# Altium footprint library diods.PcbLib: 43 footprints (part 3 of 3)
Each footprint in its own frame and in the unit in brackets; x right, y up, seen from the top. Pads: shape width x height; smd on the part's side, far side on the other; paste and mask are expansions set on the pad; w line width, h text height; cw(c..) or ccw(c..) is an arc to the next point about the centre after c.
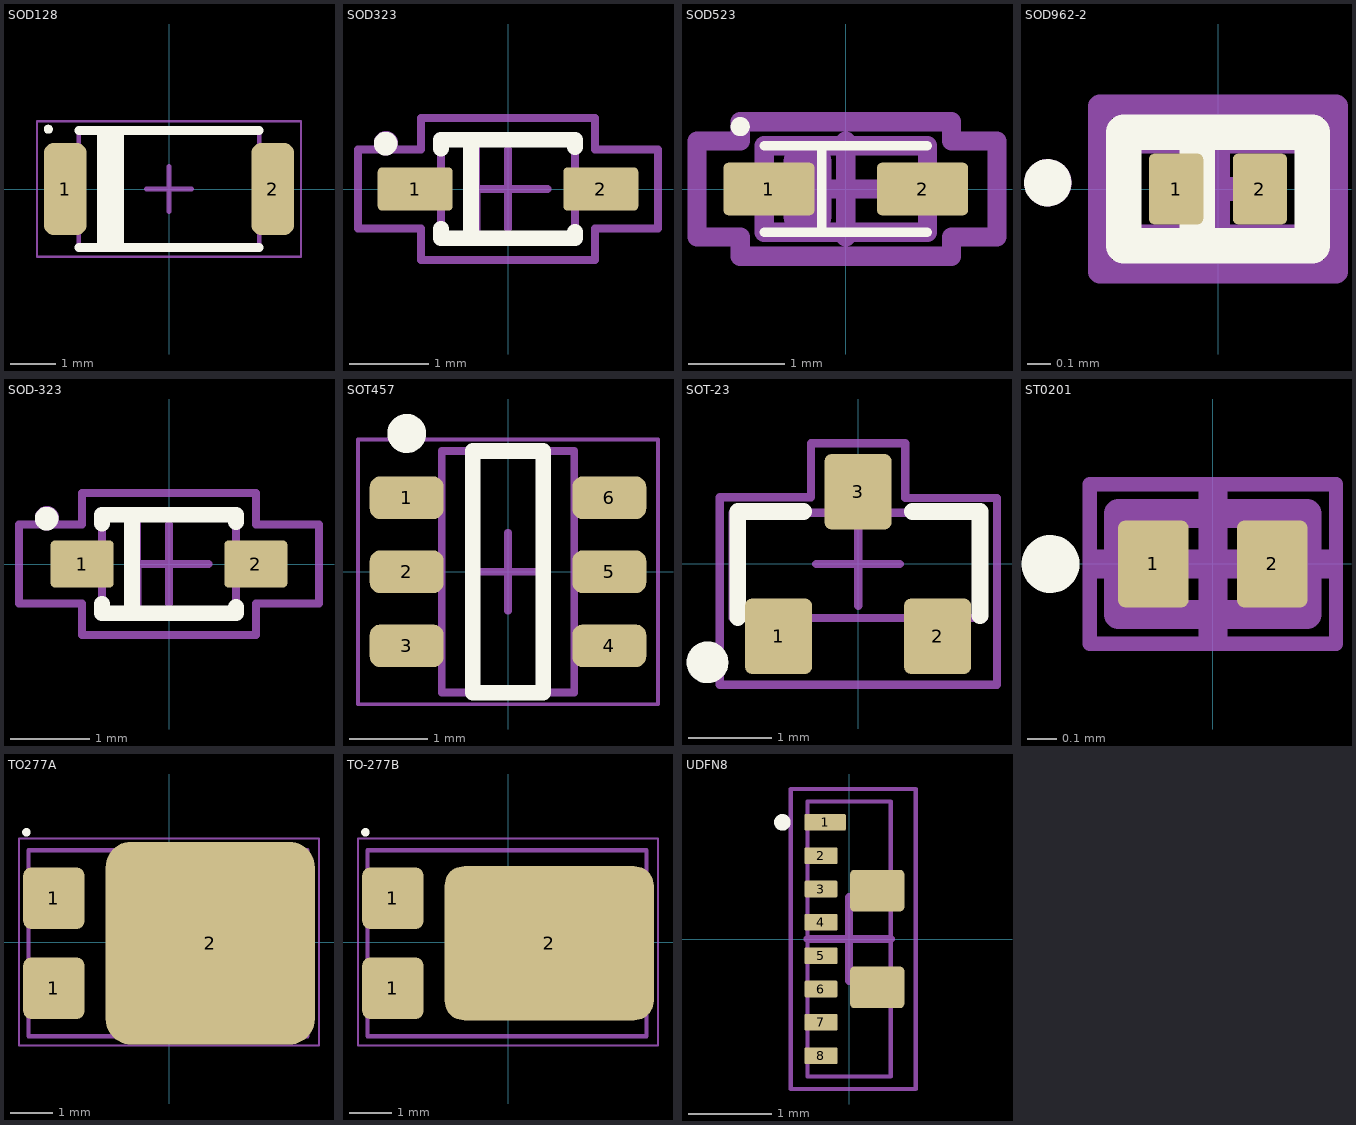
[diagram p2: the footprints below, top view; thin cyan lines are the x and y axes]

## SOD128 [mm] "SOD128, IPC Medium Density"
height 1.1
pads (2):
  rrect50% 0.95x2.05 smd: 1(-2.3,0) 2(2.3,0)
Top Overlay:
  circle w0.1: c-2.675,1.325 r0.05
  lines w0.2: -2,-1.3 2,-1.3 ; -2,1.3 2,1.3 ; -1.5,-1.3 -1.5,1.3 ; -1.3,-1.3 -1.3,1.3 ; -1.1,-1.3 -1.1,1.3
Mechanical 13:
  lines w0.1: -2,-1.35 -2,1.35 2,1.35 2,-1.35 -2,-1.35
Mechanical 15:
  lines w0.05: -2.925,-1.5 -2.925,1.5 2.925,1.5 2.925,-1.5 -2.925,-1.5
  lines w0.1: -0.5,0 0.5,0 ; 0,-0.5 0,0.5
3D body "SOD128.step": height 1.1, standoff 0, extent -2.5,-1.35 2.5,1.35

## SOD323 [mm] "PESD5V0S1BA,115  , SOD323, IPC Low Density"
height 1.1
pads (2):
  rrect20% 0.95x0.55 smd: 1(-1.175,0) 2(1.175,0)
Top Overlay:
  circle w0.2: c-1.55,0.575 r0.05
  lines w0.2: -0.85,-0.503 -0.85,-0.625 0.85,-0.625 0.85,-0.545 ; -0.85,0.512 -0.85,0.625 0.85,0.625 0.85,0.531 ; -0.468,-0.625 -0.468,0.625
M3_comm_top:
  text ".comment" at -0.9,-0.3 h1
M5_asm_top:
  lines w0.1: -0.402,0.614 -0.4,-0.612 ; -0.85,-0.625 0.85,-0.625 0.85,0.625 -0.85,0.625 -0.85,-0.625
  lines w0.2: -1.5,0.554 cw(c-1.547,0.58) -1.493,0.58
  text ".Designator" at -0.973,1.118 h1
M7_courtyard_top:
  lines w0.1: -0.5,0 0.5,0 ; 0,-0.5 0,0.5 ; -1.9,-0.5 -1.1,-0.5 -1.1,-0.9 1.1,-0.9 1.1,-0.5 1.9,-0.5 1.9,0.5 1.1,0.5 1.1,0.9 -1.1,0.9 -1.1,0.5 -1.9,0.5 -1.9,-0.5
3D body "sod323.step": height 1.1, standoff 0, extent -1.35,-0.625 1.35,0.625

## SOD523 [mm] "PESD3V3S1UB, IPC Low Density"
height 1.1
pads (2):
  rrect20% 0.95x0.55 smd: 1(-0.8,0) 2(0.8,0)
Top Overlay:
  circle w0.1: c-1.1,0.65 r0.05
  lines w0.1: -0.85,-0.45 0.85,-0.45 ; -0.85,0.45 0.85,0.45 ; -0.25,-0.45 -0.25,0.45
M3_comm_top:
  text ".comment" at -0.9,-0.3 h1
M5_asm_top:
  lines w0.2: -0.85,-0.45 0.85,-0.45 0.85,0.45 -0.85,0.45 -0.85,-0.45
  lines w0.5: -0.4,-0.275 -0.4,0.275
  text ".Designator" at -1,1.4 h1
M7_courtyard_top:
  lines w0.2: -0.5,0 0.5,0 ; 0,-0.5 0,0.5 ; -1.55,-0.5 -1.1,-0.5 -1.1,-0.7 1.1,-0.7 1.1,-0.5 1.575,-0.5 1.575,0.5 1.1,0.5 1.1,0.7 -1.1,0.7 -1.1,0.5 -1.55,0.5 -1.55,-0.5
3D body "User Library-SOD523F.step": height 0.7, standoff 0, extent -0.85,-0.45 0.85,0.45

## SOD962-2 [mm] "DSN0603-2 (SOD962-2), PESD5V0X1BCSF"
height 0.35
pads (2):
  rrect20% 0.23x0.3 smd: 1(-0.178,0) 2(0.178,0)
Top Overlay:
  circle w0.1: c-0.721,0.026 r0.05
  lines w0.15: -0.088,-0.195 -0.088,0.205 ; -0.4,-0.24 0.4,-0.24 0.4,0.24 -0.4,0.24 -0.4,-0.24
M3_comm_top:
  text ".comment" at -0.594,-0.183 h1
M5_asm_top:
  circle w0.1: c-0.721,0.027 r0.05
  lines w0.1: -0.1,-0.2 -0.1,0.2 ; -0.4,-0.2 0.4,-0.2 0.4,0.2 -0.4,0.2 -0.4,-0.2
  text ".Designator" at -0.383,0.413 h1
M7_courtyard_top:
  lines w0.1: -0.2,0 0.2,0 ; 0,-0.2 0,0.2 ; -0.5,-0.35 -0.5,0.35 0.5,0.35 0.5,-0.35 -0.5,-0.35
3D body: height 0.35, standoff 0.03, extent -0.325,-0.175 0.325,0.175

## SOD-323 [mm] "BAS21HT1G , BZX384C5V1-HE3-18 , BZX384C6V8-E3-18 , PESD5V0S1BA,115  , SOD323, IPC Low Density"
height 1.1
pads (2):
  rrect20% 0.8x0.6 smd: 1(-1.1,0) 2(1.1,0)
Top Overlay:
  circle w0.2: c-1.55,0.575 r0.05
  lines w0.2: -0.85,-0.503 -0.85,-0.625 0.85,-0.625 0.85,-0.545 ; -0.85,0.512 -0.85,0.625 0.85,0.625 0.85,0.531 ; -0.468,-0.625 -0.468,0.625
M3_comm_top:
  text ".comment" at 0,0 h1
M5_asm_top:
  lines w0.1: -0.402,0.614 -0.4,-0.612 ; -0.85,-0.625 0.85,-0.625 0.85,0.625 -0.85,0.625 -0.85,-0.625
  lines w0.2: -1.5,0.554 cw(c-1.547,0.58) -1.493,0.58
  text ".Designator" at -0.973,1.118 h1
M7_courtyard_top:
  lines w0.1: -0.5,0 0.5,0 ; 0,-0.5 0,0.5 ; -1.9,-0.5 -1.1,-0.5 -1.1,-0.9 1.1,-0.9 1.1,-0.5 1.9,-0.5 1.9,0.5 1.1,0.5 1.1,0.9 -1.1,0.9 -1.1,0.5 -1.9,0.5 -1.9,-0.5
3D body "sod323.step": height 1.1, standoff 0, extent -1.35,-0.625 1.35,0.625

## SOT457 [mm] "SOT457, IPC Medium Density"
height 1.1
pads (6):
  rrect50% 0.95x0.55 smd: 1(-1.3,0.95) 2(-1.3,0) 3(-1.3,-0.95) 4(1.3,-0.95) 5(1.3,0) 6(1.3,0.95)
Top Overlay:
  circle w0.25: c-1.3,1.775 r0.125
  lines w0.2: -0.45,-1.55 0.45,-1.55 0.45,1.55 -0.45,1.55 -0.45,-1.55
Mechanical 13:
  lines w0.1: -0.85,-1.55 -0.85,1.55 0.85,1.55 0.85,-1.55 -0.85,-1.55
Mechanical 15:
  lines w0.05: -1.925,-1.7 -1.925,1.7 1.925,1.7 1.925,-1.7 -1.925,-1.7
  lines w0.1: -0.5,0 0.5,0 ; 0,-0.5 0,0.5
3D body "SOT457.step": height 1.04, standoff 0.01, extent -1.385,-1.5 1.386,1.5

## SOT-23 [mm] "BZX84C2V4LT1 , MMBD7000LT1G, SOT-23, IPC Medium Density"
height 1.1
pads (3):
  rrect20% 0.8x0.9 smd mask+0.05: 1(-0.95,-0.863) 2(0.95,-0.863) 3(0,0.863)
Top Overlay:
  circle w0.25: c-1.8,-1.175 r0.125
  lines w0.2: -1.438,-0.639 -1.438,0.627 -0.651,0.627 ; 0.651,0.627 1.456,0.627 1.456,-0.614
M3_comm_top:
  text ".comment" at -1.7,-0.4 h1
M5_asm_top:
  lines w0.1: -1.5,-0.645 -1.5,0.614 1.5,0.614 1.5,-0.645 -1.5,-0.645
  text ".Designator" at -0.662,1.499 h1
M7_courtyard_top:
  lines w0.1: -0.5,0 0.5,0 ; 0,-0.5 0,0.5 ; -1.652,-1.442 1.66,-1.442 1.66,0.789 0.562,0.789 0.562,1.442 -0.562,1.442 -0.562,0.796 -1.652,0.796 -1.652,-1.442
3D body "CircuitWorks-SOT-23.STEP": height 1.07, standoff -0.03, extent -1.501,-1.253 1.499,1.247

## ST0201 [mm] "0201, IPC High Density"
height 0.35
pads (2):
  rrect20% 0.243x0.3 smd: 1(-0.205,0) 2(0.205,0)
Top Overlay:
  circle w0.1: c-0.56,0 r0.05
Mechanical 13:
  lines w0.1: -0.325,-0.175 -0.325,0.175 0.325,0.175 0.325,-0.175 -0.325,-0.175
Mechanical 15:
  lines w0.05: -0.425,-0.275 -0.425,0.275 0.425,0.275 0.425,-0.275 -0.425,-0.275
  lines w0.1: -0.4,0 0.4,0 ; 0,-0.25 0,0.25
3D body: height 0.35, standoff 0.03, extent -0.325,-0.175 0.325,0.175

## TO277A [mm] "TO277A, IPC Medium Density"
height 0.82
pads (3):
  rrect25% 1.45x1.45 smd: 1(-2.725,-1.09) 1(-2.725,1.04)
  rrect25% 4.95x4.8 smd: 2(0.975,-0.025)
Top Overlay:
  circle w0.1: c-3.375,2.6 r0.05
Mechanical 13:
  lines w0.1: -3.325,-2.225 -3.325,2.175 3.275,2.175 3.275,-2.225 -3.325,-2.225
Mechanical 15:
  lines w0.05: -3.55,-2.45 -3.55,2.45 3.55,2.45 3.55,-2.45 -3.55,-2.45
  lines w0.1: -0.5,0 0.5,0 ; 0,-0.5 0,0.5
3D body "TO-277A.step": height 1.2, standoff 0, extent -3.325,-2.4 3.325,2.35

## TO-277B [mm] "DST2050S"
height 0.82
pads (3):
  rrect25% 1.45x1.45 smd: 1(-2.725,-1.09) 1(-2.725,1.04)
  rrect25% 4.95x3.65 smd: 2(0.975,-0.025)
Top Overlay:
  circle w0.1: c-3.375,2.6 r0.05
Mechanical 13:
  lines w0.1: -3.325,-2.225 3.275,-2.225 3.275,2.175 -3.325,2.175 -3.325,-2.225
Mechanical 15:
  lines w0.05: -3.55,-2.45 3.55,-2.45 3.55,2.45 -3.55,2.45 -3.55,-2.45
  lines w0.1: -0.5,0 0.5,0 ; 0,-0.5 0,0.5
3D body "TO-277A.step": height 1.2, standoff 0, extent -3.325,-2.4 3.325,2.35

## UDFN8 [mm] "CASE 517CB,  3.3 x 1.0, 0.4P ESD7016MUTAG"
height 0.53
pads (10):
  rrect20% 0.5x0.2 smd: 1(-0.288,1.4)
  rrect20% 0.4x0.2 smd: 2(-0.337,1) 3(-0.337,0.6) 4(-0.337,0.2) 5(-0.337,-0.2) 6(-0.337,-0.6) 7(-0.337,-1) 8(-0.337,-1.4)
  rrect20% 0.65x0.5 smd: ""(0.337,-0.58) ""(0.337,0.58)
Top Overlay:
  circle w0.1: c-0.8,1.4 r0.05
Mechanical 13:
  lines w0.05: -0.5,-1.65 0.5,-1.65 0.5,1.65 -0.5,1.65 -0.5,-1.65
Mechanical 15:
  lines w0.05: -0.7,-1.8 0.8,-1.8 0.8,1.8 -0.7,1.8 -0.7,-1.8
  lines w0.1: -0.5,0 0.5,0 ; 0,-0.5 0,0.5
3D body: height 0.5, standoff 0.01, extent -0.5,-1.65 0.5,1.65